# Altium footprint library PAL3.PcbLib: 145 footprints (part 5 of 10)
Each footprint in its own frame and in the unit in brackets; x right, y up, seen from the top. Pads: shape width x height; smd on the part's side, far side on the other; paste and mask are expansions set on the pad; w line width, h text height; cw(c..) or ccw(c..) is an arc to the next point about the centre after c.
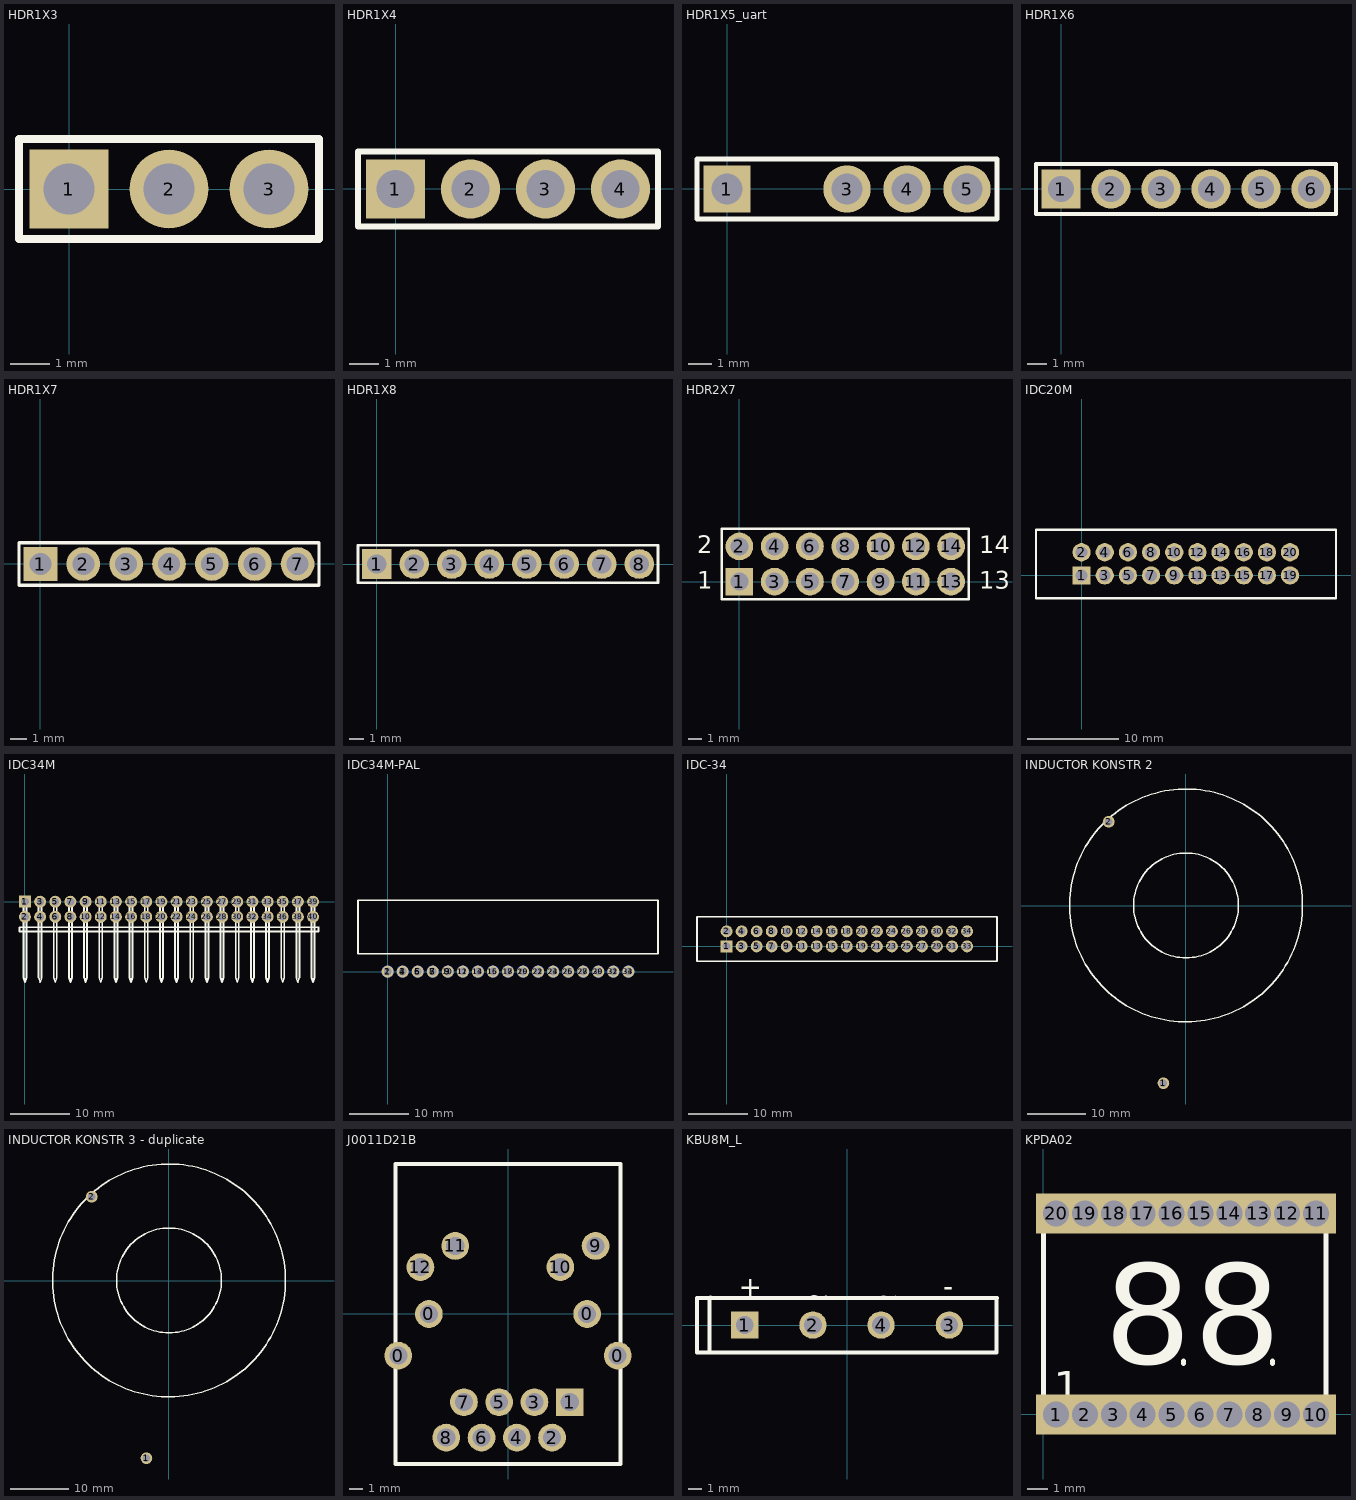
[diagram p4: the footprints below, top view; thin cyan lines are the x and y axes]

## HDR1X3 [mm]
pads (3):
  rect 2x2 hole 1.3: 1(-0.009,0.011)
  round 2 hole 1.3: 2(2.531,0.011) 3(5.071,0.011)
Top Overlay:
  lines w0.2: -1.279,-1.259 -1.279,1.281 6.341,1.281 6.341,-1.259 -1.279,-1.259

## HDR1X4 [mm]
pads (4):
  rect 2x2 hole 1.3: 1(-0.012,-0.011)
  round 2 hole 1.3: 2(2.528,-0.011) 3(5.068,-0.011) 4(7.608,-0.011)
Top Overlay:
  lines w0.2: -1.282,-1.281 8.878,-1.281 8.878,1.259 -1.282,1.259 -1.282,-1.281

## HDR1X5_uart [mm]
pads (4):
  rect 2x2 hole 1.3: 1(-0.008,-0.009)
  round 2 hole 1.3: 3(5.072,-0.009) 4(7.612,-0.009) 5(10.152,-0.009)
Top Overlay:
  lines w0.2: -1.278,-1.279 11.422,-1.279 11.422,1.261 -1.278,1.261 -1.278,-1.279

## HDR1X6 [mm]
pads (6):
  rect 2x2 hole 1.3: 1(-0.012,-0.008)
  round 2 hole 1.3: 2(2.528,-0.008) 3(5.068,-0.008) 4(7.608,-0.008) 5(10.148,-0.008) 6(12.688,-0.008)
Top Overlay:
  lines w0.2: -1.282,-1.278 13.958,-1.278 13.958,1.262 -1.282,1.262 -1.282,-1.278

## HDR1X7 [mm]
pads (7):
  rect 2x2 hole 1.3: 1(0,-0.008)
  round 2 hole 1.3: 2(2.54,-0.008) 3(5.08,-0.008) 4(7.62,-0.008) 5(10.16,-0.008) 6(12.7,-0.008) 7(15.24,-0.008)
Top Overlay:
  lines w0.2: -1.27,-1.278 16.51,-1.278 16.51,1.262 -1.27,1.262 -1.27,-1.278

## HDR1X8 [mm]
pads (8):
  rect 2x2 hole 1.3: 1(-0.001,0.002)
  round 2 hole 1.3: 2(2.539,0.002) 3(5.079,0.002) 4(7.619,0.002) 5(10.159,0.002) 6(12.699,0.002) 7(15.239,0.002) 8(17.779,0.002)
Top Overlay:
  lines w0.2: -1.271,-1.268 -1.271,1.272 19.049,1.272 19.049,-1.268 -1.271,-1.268

## HDR2X7 [mm]
pads (14):
  rect 2x2 hole 1.3: 1(0,-0.01)
  round 2 hole 1.3: 2(0,2.53) 3(2.54,-0.01) 4(2.54,2.53) 5(5.08,-0.01) 6(5.08,2.53) 7(7.62,-0.01) 8(7.62,2.53) 9(10.16,-0.01) 10(10.16,2.53) 11(12.7,-0.01) 12(12.7,2.53) 13(15.24,-0.01) 14(15.24,2.53)
Top Overlay:
  lines w0.2: -1.27,-1.28 16.51,-1.28 16.51,3.8 -1.27,3.8 -1.27,-1.28
  text "13" at 17.272,-0.518 h1.27
  text "14" at 17.272,2.022 h1.27
  text "1" at -3.048,-0.518 h1.27
  text "2" at -3.048,2.022 h1.27

## IDC20M [mm]
pads (20):
  rect 2x2 hole 1.3: 1(0,0)
  round 2 hole 1.3: 2(0,2.54) 3(2.54,0) 4(2.54,2.54) 5(5.08,0) 6(5.08,2.54) 7(7.62,0) 8(7.62,2.54) 9(10.16,0) 10(10.16,2.54) 11(12.7,0) 12(12.7,2.54) 13(15.24,0) 14(15.24,2.54) 15(17.78,0) 16(17.78,2.54) 17(20.32,0) 18(20.32,2.54) 19(22.86,0) 20(22.86,2.54)
Top Overlay:
  lines w0.254: -5,-2.5 27.9,-2.5 27.9,5 -5,5 -5,-2.5

## IDC34M [mm]
pads (40):
  rect 2x2 hole 1.3: 1(0,0)
  round 2 hole 1.3: 2(0,-2.54) 3(2.54,0) 4(2.54,-2.54) 5(5.08,0) 6(5.08,-2.54) 7(7.62,0) 8(7.62,-2.54) 9(10.16,0) 10(10.16,-2.54) 11(12.7,0) 12(12.7,-2.54) 13(15.24,0) 14(15.24,-2.54) 15(17.78,0) 16(17.78,-2.54) 17(20.32,0) 18(20.32,-2.54) 19(22.86,0) 20(22.86,-2.54) 21(25.4,0) 22(25.4,-2.54) 23(27.94,0) 24(27.94,-2.54) 25(30.48,0) 26(30.48,-2.54) 27(33.02,0) 28(33.02,-2.54) 29(35.56,0) 30(35.56,-2.54) 31(38.1,0) 32(38.1,-2.54) 33(40.64,0) 34(40.64,-2.54) 35(43.18,0) 36(43.18,-2.54) 37(45.72,0) 38(45.72,-2.54) 39(48.26,0) 40(48.26,-2.54)
Top Overlay:
  lines w0.3: -0.75,-4.275 49.175,-4.275 49.2,-4.3 49.2,-5 -0.9,-5 -0.9,-4.3 -0.875,-4.275 -0.675,-4.275 ; -0.25,0 -0.25,-12.7 0,-13.5 0.25,-12.7 0.25,0 ; -0.25,0.048 cw(c0,0.025) 0.25,0.05 ; 2.29,0 2.29,-12.7 2.54,-13.5 2.79,-12.7 2.79,0 ; 2.29,0.048 cw(c2.54,0.025) 2.79,0.05 ; 4.83,0 4.83,-12.7 5.08,-13.5 5.33,-12.7 5.33,0 ; 4.83,0.048 cw(c5.08,0.025) 5.33,0.05 ; 7.37,0 7.37,-12.7 7.62,-13.5 7.87,-12.7 7.87,0 ; 7.37,0.048 cw(c7.62,0.025) 7.87,0.05 ; 9.91,0 9.91,-12.7 10.16,-13.5 10.41,-12.7 10.41,0 ; 9.91,0.048 cw(c10.16,0.025) 10.41,0.05 ; 12.45,0 12.45,-12.7 12.7,-13.5 12.95,-12.7 12.95,0 ; 12.45,0.048 cw(c12.7,0.025) 12.95,0.05 ; 14.99,0 14.99,-12.7 15.24,-13.5 15.49,-12.7 15.49,0 ; 14.99,0.048 cw(c15.24,0.025) 15.49,0.05 ; 17.53,0 17.53,-12.7 17.78,-13.5 18.03,-12.7 18.03,0 ; 17.53,0.048 cw(c17.78,0.025) 18.03,0.05 ; 20.07,0 20.07,-12.7 20.32,-13.5 20.57,-12.7 20.57,0 ; 20.07,0.048 cw(c20.32,0.025) 20.57,0.05 ; 22.61,0 22.61,-12.7 22.86,-13.5 23.11,-12.7 23.11,0 ; 22.61,0.048 cw(c22.86,0.025) 23.11,0.05 ; 25.15,0 25.15,-12.7 25.4,-13.5 25.65,-12.7 25.65,0 ; 25.15,0.048 cw(c25.4,0.025) 25.65,0.05 ; 27.69,0 27.69,-12.7 27.94,-13.5 28.19,-12.7 28.19,0 ; 27.69,0.048 cw(c27.94,0.025) 28.19,0.05 ; 30.23,0 30.23,-12.7 30.48,-13.5 30.73,-12.7 30.73,0 ; 30.23,0.048 cw(c30.48,0.025) 30.73,0.05 ; 32.77,0 32.77,-12.7 33.02,-13.5 33.27,-12.7 33.27,0 ; 32.77,0.048 cw(c33.02,0.025) 33.27,0.05 ; 35.31,0 35.31,-12.7 35.56,-13.5 35.81,-12.7 35.81,0 ; 35.31,0.048 cw(c35.56,0.025) 35.81,0.05 ; 37.85,0 37.85,-12.7 38.1,-13.5 38.35,-12.7 38.35,0 ; 37.85,0.048 cw(c38.1,0.025) 38.35,0.05 ; 40.39,0 40.39,-12.7 40.64,-13.5 40.89,-12.7 40.89,0 ; 40.39,0.048 cw(c40.64,0.025) 40.89,0.05 ; 42.93,0 42.93,-12.7 43.18,-13.5 43.43,-12.7 43.43,0 ; 42.93,0.048 cw(c43.18,0.025) 43.43,0.05 ; 45.47,0 45.47,-12.7 45.72,-13.5 45.97,-12.7 45.97,0 ; 45.47,0.048 cw(c45.72,0.025) 45.97,0.05 ; 48.01,-12.7 48.01,0 48.01,-12.7 ; 48.01,-12.7 48.26,-13.5 ; 48.01,-12.7 48.26,-13.5 ; 48.26,-13.5 48.51,-12.7 ; 48.26,-13.5 48.51,-12.7 ; 48.51,-12.7 48.51,0 48.51,-12.7 ; 48.01,0.048 cw(c48.26,0.025) 48.51,0.05 ccw(c48.26,0.025) 48.01,0.048

## IDC34M-PAL [mm]
pads (34):
  round 2 on Top hole 1.3: 1(0,0) 3(2.54,0) 5(5.08,0) 7(7.62,0) 9(10.16,0) 11(12.7,0) 13(15.24,0) 15(17.78,0) 17(20.32,0) 19(22.86,0) 21(25.4,0) 23(27.94,0) 25(30.48,0) 27(33.02,0) 29(35.56,0) 31(38.1,0) 33(40.64,0)
  round 2 on Bottom hole 1.3: 2(0,0) 4(2.54,0) 6(5.08,0) 8(7.62,0) 10(10.16,0) 12(12.7,0) 14(15.24,0) 16(17.78,0) 18(20.32,0) 20(22.86,0) 22(25.4,0) 24(27.94,0) 26(30.48,0) 28(33.02,0) 30(35.56,0) 32(38.1,0) 34(40.64,0)
Top Overlay:
  lines w0.254: -5,3 45.64,3 45.64,12 -5,12 -5,3

## IDC-34 [mm]
pads (34):
  rect 2x2 hole 1.3: 1(0,0)
  round 2 hole 1.3: 2(0,2.54) 3(2.54,0) 4(2.54,2.54) 5(5.08,0) 6(5.08,2.54) 7(7.62,0) 8(7.62,2.54) 9(10.16,0) 10(10.16,2.54) 11(12.7,0) 12(12.7,2.54) 13(15.24,0) 14(15.24,2.54) 15(17.78,0) 16(17.78,2.54) 17(20.32,0) 18(20.32,2.54) 19(22.86,0) 20(22.86,2.54) 21(25.4,0) 22(25.4,2.54) 23(27.94,0) 24(27.94,2.54) 25(30.48,0) 26(30.48,2.54) 27(33.02,0) 28(33.02,2.54) 29(35.56,0) 30(35.56,2.54) 31(38.1,0) 32(38.1,2.54) 33(40.64,0) 34(40.64,2.54)
Top Overlay:
  lines w0.254: 27.8,5 45.7,5 45.7,-2.5 27.9,-2.5 -5,-2.5 -5,5 27.9,5

## INDUCTOR KONSTR 2 [mm]
pads (2):
  round 2 hole 1.3: 1(-3.865,-30.514)
  round 2 hole 1.3 unplated: 2(-13.265,14.386)
Top Overlay:
  circle w0.254: c0.01,0.011 r9
  circle w0.254: c0.01,0.011 r20

## INDUCTOR KONSTR 3 - duplicate [mm]
pads (2):
  round 2 hole 1.3: 1(-3.865,-30.514)
  round 2 hole 1.3 unplated: 2(-13.265,14.386)
Top Overlay:
  circle w0.254: c0.01,0.011 r9
  circle w0.254: c0.01,0.011 r20

## J0011D21B [mm]
pads (16):
  round 2 hole 1.3: 0(-7.9,-3) 0(-5.7,0) 0(5.7,0) 0(7.9,-3) 2(3.175,-8.9) 3(1.905,-6.35) 4(0.635,-8.9) 5(-0.635,-6.35) 6(-1.905,-8.9) 7(-3.175,-6.35) 8(-4.445,-8.9) 9(6.31,4.9) 10(3.77,3.38) 11(-3.8,4.9) 12(-6.31,3.38)
  rect 2x2 hole 1.3: 1(4.445,-6.35)
Top Overlay:
  lines w0.3: -8.1,-10.8 0,-10.8 8.1,-10.8 8.1,0 8.1,10.8 0,10.8 -8.1,10.8 -8.1,0 -8.1,-10.8

## KBU8M_L [mm]
pads (4):
  rect 2x2 hole 1.3: 1(-7.5,0)
  round 2 hole 1.3: 2(-2.5,0) 3(7.5,0) 4(2.5,0)
Top Overlay:
  lines w0.2: -11,-2 11,-2 ; -11,2 11,2
  lines w0.3: -10.075,-2 -10.075,1.95 -10,2.025 ; -11,-2 -11,2 11,2 10.975,1.975 10.975,-2 -11,-2
  text "~" at -2.975,1.375 h1.5
  text "~" at 2.125,1.35 h1.5
  text "-" at 7.075,2.125 h1.5
  text "+" at -7.95,2.075 h1.5

## KPDA02 [mm]
pads (20):
  rect 2x2 on Top hole 1.3: 1(0.634,-0.008) 2(2.074,-0.008) 3(3.519,-0.008) 4(4.954,-0.008) 5(6.394,-0.008) 6(7.834,-0.008) 7(9.274,-0.008) 8(10.714,-0.008) 9(12.154,-0.008) 10(13.594,-0.008) 11(13.594,10.025) 12(12.154,10.025) 13(10.714,10.025) 14(9.274,10.025) 15(7.834,10.025) 16(6.394,10.025) 17(4.954,10.025) 18(3.514,10.025) 19(2.074,10.025) 20(0.634,10.025)
Top Overlay:
  lines w0.254: 6.984,2.532 6.984,2.659 ; 11.429,2.532 11.429,2.659 ; -0.001,-0.008 14.096,-0.008 14.096,10.025 -0.001,10.025 -0.001,-0.008
  text "1" at 0.507,0.627 h1.52
  text "8" at 7.492,2.532 h5
  text "8" at 3.047,2.532 h5